# Altium footprint library NTC.PcbLib: 18 footprints (part 2 of 2)
Each footprint in its own frame and in the unit in brackets; x right, y up, seen from the top. Pads: shape width x height; smd on the part's side, far side on the other; paste and mask are expansions set on the pad; w line width, h text height; cw(c..) or ccw(c..) is an arc to the next point about the centre after c.
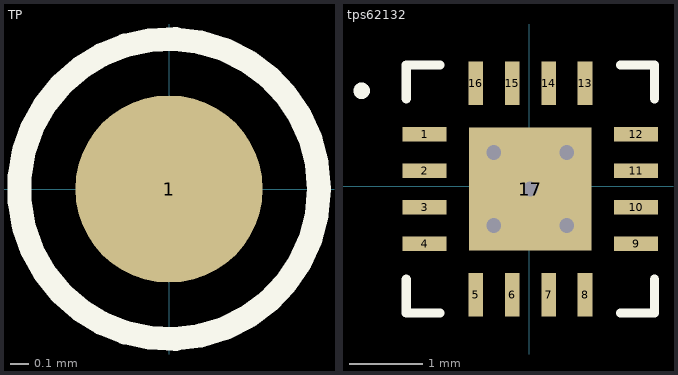
[diagram p1: the footprints below, top view; thin cyan lines are the x and y axes]

## TP [mm]
pads (1):
  round 1 smd paste-2 mask+0.1: 1(0,0)
Top Overlay:
  circle w0.127: c0,0 r0.8

## tps62132 [mm]
pads (17):
  rrect5% 0.6x0.2 smd: 1(-1.433,0.711) 2(-1.433,0.211) 3(-1.433,-0.289) 4(-1.433,-0.789) 9(1.467,-0.789) 10(1.467,-0.289) 11(1.467,0.211) 12(1.467,0.711)
  rrect5% 0.2x0.6 smd: 5(-0.733,-1.489) 6(-0.233,-1.489) 7(0.267,-1.489) 8(0.767,-1.489) 13(0.767,1.411) 14(0.267,1.411) 15(-0.233,1.411) 16(-0.733,1.411)
  rect 1.68x1.68 smd: 17(0.017,-0.039)
via -0.483,-0.539 diameter 0.4 hole 0.2
via 0.517,-0.539 diameter 0.4 hole 0.2
via 0.017,-0.039 diameter 0.4 hole 0.2
via -0.483,0.461 diameter 0.4 hole 0.2
via 0.517,0.461 diameter 0.4 hole 0.2
Top Overlay:
  circle w0.125: c-2.294,1.307 r0.05
  lines w0.125: -1.683,-1.276 -1.683,-1.739 -1.22,-1.739 ; -1.683,1.199 -1.683,1.661 -1.22,1.661 ; 1.255,-1.739 1.717,-1.739 1.717,-1.276 ; 1.255,1.661 1.717,1.661 1.717,1.199
3D body "TPS62132RGTR.stp": height 1, standoff 0, extent -1.532,-1.589 1.568,1.511